# Altium schematic symbol library TS5A3160.SchLib: 1 symbol
Pins are listed as number, name and electrical type; pins without a type are passive.

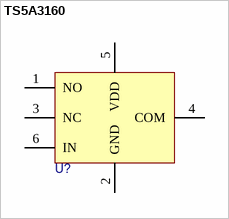
[diagram p0: symbol TS5A3160]

## TS5A3160
designator U?  (value not drawn)
pins: 1 NO, 2 GND, 3 NC, 4 COM, 5 VDD, 6 IN